# Altium schematic symbol library CD74HC04E.SchLib: 1 symbol
Pins are listed as number, name and electrical type; pins without a type are passive.

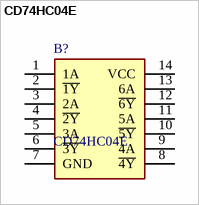
[diagram p0: symbol CD74HC04E]

## CD74HC04E
designator B?
High Speed CMOS Logic Hex Inverters; Manufacturer_Name: Texas Instruments; Geometry.Height: 5.08mm; Mouser Part Number: 595-CD74HC04E; Mouser Price/Stock: https://www.mouser.co.uk/ProductDetail/Texas-Instruments/CD74HC04E?qs=st7IWvlL5%2FgJ10Ud3pnBSA%3D%3D; Manufacturer_Part_Number: CD74HC04E; Datasheet Link: http://www.ti.com/lit/ds/symlink/cd74hc04.pdf
footprint DIP794W53P254L1930H508Q14N
pins: 1 1A, 2 ~{1Y}, 3 2A, 4 ~{2Y}, 5 3A, 6 ~{3Y}, 7 GND, 8 ~{4Y}, 9 4A, 10 ~{5Y}, 11 5A, 12 ~{6Y}, 13 6A, 14 VCC